# EAGLE library part BMI-S-103 (library parts)
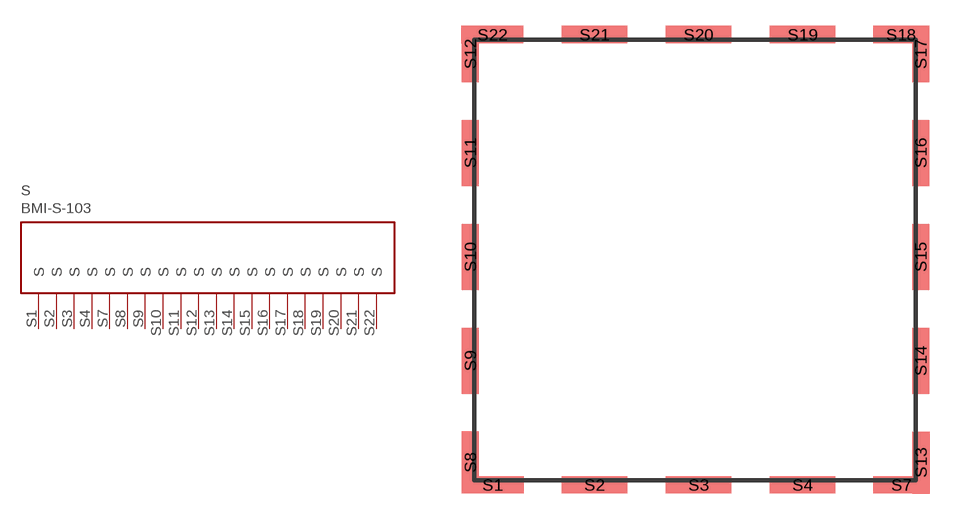
[diagram p18: symbol with the pads of BMI-S-103; footprint BMI-S-103]

Designator prefix S

## BMI-S-103  [BMI-S-103]
S1  S  pwr
S2  S  pwr
S3  S  pwr
S4  S  pwr
S7  S  pwr
S8  S  pwr
S9  S  pwr
S10  S  pwr
S11  S  pwr
S12  S  pwr
S13  S  pwr
S14  S  pwr
S15  S  pwr
S16  S  pwr
S17  S  pwr
S18  S  pwr
S19  S  pwr
S20  S  pwr
S21  S  pwr
S22  S  pwr

## Footprint BMI-S-103 (pad centres in mm)
smd 3.57 x 1: S1 1.79,0.5; S22 1.78,26.51
smd 3.8 x 1: S2 7.67,0.5; S3 13.68,0.5; S4 19.68,0.5; S19 19.68,26.51; S20 13.68,26.51; S21 7.67,26.51
smd 3.24 x 1: S7 25.39,0.5; S18 25.37,26.51
smd 1 x 3.57: S8 0.5,1.8; S13 26.51,1.78
smd 1 x 3.8: S9 0.5,7.66; S10 0.5,13.67; S11 0.5,19.67; S14 26.5,7.66; S15 26.5,13.67; S16 26.5,19.67
smd 1 x 3.24: S12 0.5,25.39; S17 26.5,25.39